# Altium schematic symbol library hp39gs-top.SchLib: 2 symbols
Pins are listed as number, name and electrical type; pins without a type are passive.

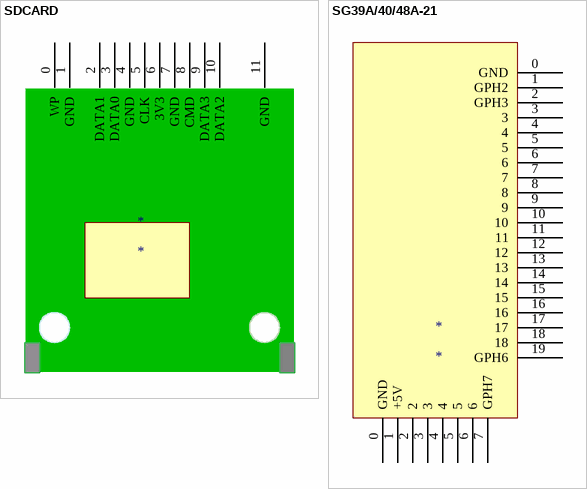
[diagram p0: symbols SDCARD to SG39A/40/48A-21]

## SDCARD
designator *
pins: 0 WP, 1 GND, 2 DATA1, 3 DATA0, 4 GND, 5 CLK, 6 3V3, 7 GND, 8 CMD, 9 DATA3, 10 DATA2, 11 GND

## SG39A/40/48A-21
designator *
pins: 0 GND, 0 GND, 1 +5V, 1 GPH2, 2, 2 GPH3, 3, 3, 4, 4, 5, 5, 6, 6, 7 GPH7, 7, 8, 9, 10, 11, 12, 13, 14, 15, 16, 17, 18, 19 GPH6